# EAGLE library part 615024149521 (library Wurth_Connectors_WR-MJ)
WR-MJ Modular Jack Horizontal Plastic 8P8C Assembly Tab Up KIND PROPERTIES Quality Class:500 Mating cycles General Information Operating Temperature:-40 up to +85 °C Compliance: RoHS Electrical Properties IR 1:1.5A Working Voltage:120V (AC) Withstanding Voltage:1000V (AC) Contact Resistance:20mΩ RISO:500 MΩ Material Properties Insulator MateriaL:PBT Insulator Flammability Rating:UL94 V-0 Color:Black Contact Material Copper Alloy Contact Plating:Gold Contact Type:Stamped Shielding Material:Brass Shielding Plating:Nickel Packaging Properties Packaging:Tray <https://www.we-online.com/catalog/media/o64597v209%20Family_Con_WR-MJ_Horizontal_Plastic_6150xx149521_pf2.jpg> Details see: https://www.we-online.com/catalog/en/MJ_HORIZONTAL_PLASTIC_ASSEMBLY_8P8C_TAB_UP/? Updated by Yingchun,Shan 2020-01-06 2020 (C) Würth Elektronik
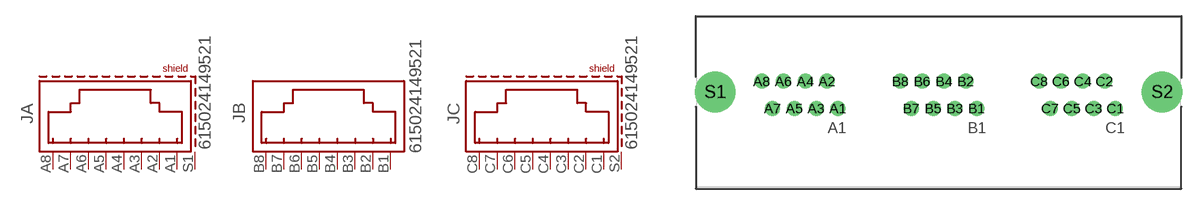
[diagram p23: symbol with the pads of 615024149521; footprint 615024149521]

Designator prefix J; gates A=8P8C_S C=8P8C_S B=8P8C_2

## 615024149521 (DATASHEET-URL: https://www.we-online.com/redexpert/spec/615024149521?ae; MOUNT: THT; PART-NUMBER: 615024149521; TYPE: Horizontal; VALUE: 615024149521; XPXC: 8P8C)  [615024149521]
A1  A:1  pas
A2  A:2  pas
A3  A:3  pas
A4  A:4  pas
A5  A:5  pas
A6  A:6  pas
A7  A:7  pas
A8  A:8  pas
B1  B:1  pas
B2  B:2  pas
B3  B:3  pas
B4  B:4  pas
B5  B:5  pas
B6  B:6  pas
B7  B:7  pas
B8  B:8  pas
C1  C:1  pas
C2  C:2  pas
C3  C:3  pas
C4  C:4  pas
C5  C:5  pas
C6  C:6  pas
C7  C:7  pas
C8  C:8  pas
S1  A:SHIELD  pas
S2  C:SHIELD  pas

## Footprint 615024149521 (pad centres in mm)
WR-MJ Modular Jack Horizontal Plastic 8P8C Assembly Tab Up
drill 0.9: A1 -9.43,-0.57; A2 -10.45,1.97; A3 -11.47,-0.57; A4 -12.49,1.97; A5 -13.51,-0.57; A6 -14.53,1.97; A7 -15.55,-0.57; A8 -16.57,1.97; B1 3.57,-0.57; B2 2.55,1.97; B3 1.53,-0.57; B4 0.51,1.97; B5 -0.51,-0.57; B6 -1.53,1.97; B7 -2.55,-0.57; B8 -3.57,1.97; C1 16.57,-0.57; C2 15.55,1.97; C3 14.53,-0.57; C4 13.51,1.97; C5 12.49,-0.57; C6 11.47,1.97; C7 10.45,-0.57; C8 9.43,1.97
drill 2.8: S1 -20.94,0.97; S2 20.94,0.97